# EAGLE library part AD215 (library custom_parts)
AD215 high-bandwidth isolator.
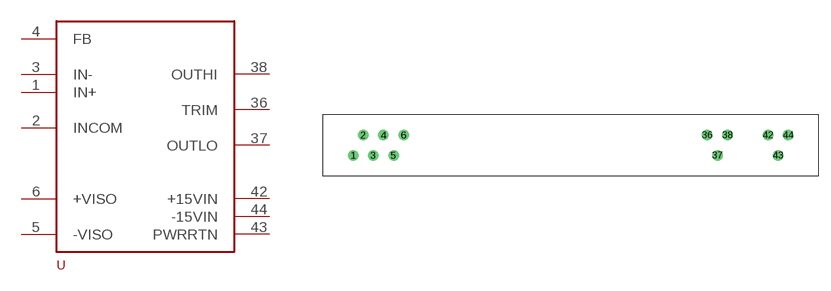
[diagram p7: symbol with the pads of AD215; footprint AD215]

Designator prefix -

## AD215  [AD215]
1  IN+
2  INCOM
3  IN-
4  FB
5  -VISO
6  +VISO
36  TRIM
37  OUTLO
38  OUTHI
42  +15VIN
43  PWRRTN
44  -15VIN

## Footprint AD215 (pad centres in mm)
drill 0.8: 1 -25.4,-1.27; 2 -24.13,1.27; 3 -22.86,-1.27; 4 -21.59,1.27; 5 -20.32,-1.27; 6 -19.05,1.27; 36 19.05,1.27; 37 20.32,-1.27; 38 21.59,1.27; 42 26.67,1.27; 43 27.94,-1.27; 44 29.21,1.27